# EAGLE library part SN65HVD23X (library GaN_Fet_ESC_V0.2)
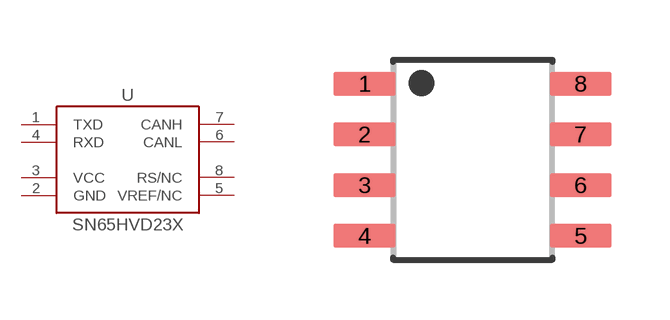
[diagram p7: symbol with the pads of SOIC-8; footprint SOIC-8]

Designator prefix U

## SN65HVD23X  [SOIC-8]
1  TXD
2  GND
3  VCC
4  RXD
5  VREF/NC
6  CANL
7  CANH
8  RS/NC

## Footprint SOIC-8 (pad centres in mm)
smd 1.55 x 0.6: 1 -2.7,1.905; 2 -2.7,0.635; 3 -2.7,-0.635; 4 -2.7,-1.905; 5 2.7,-1.905; 6 2.7,-0.635; 7 2.7,0.635; 8 2.7,1.905